# EAGLE library part NAU88C10YG (library NAU88C10YG)
Differential/Mono Audio Codec with 2-wire Interface Control Interface Source: Datasheet <http://www.nuvoton.com/resource-files/NAU8810_Datasheet_Rev_2.8.pdf>
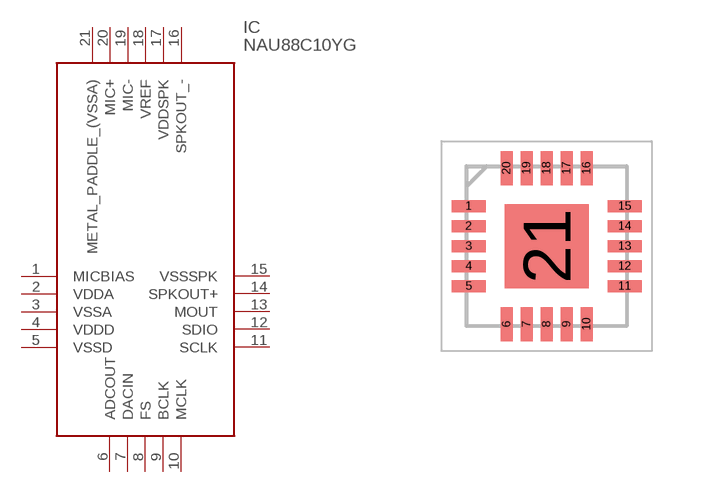
[diagram p0: symbol with the pads of QFN50P400X400X80-21N; footprint QFN50P400X400X80-21N]

Designator prefix IC

## NAU88C10YG (Description: Differential/Mono Audio Codec with 2-wire Interface Control Interface; Height: 0.8mm; Manufacturer_Name: Nuvoton; Manufacturer_Part_Number: NAU88C10YG)  [QFN50P400X400X80-21N]
1  MICBIAS
2  VDDA
3  VSSA
4  VDDD
5  VSSD
6  ADCOUT
7  DACIN
8  FS
9  BCLK
10  MCLK
11  SCLK
12  SDIO
13  MOUT
14  SPKOUT+
15  VSSSPK
16  SPKOUT_-
17  VDDSPK
18  VREF
19  MIC-
20  MIC+
21  METAL_PADDLE_(VSSA)

## Footprint QFN50P400X400X80-21N (pad centres in mm)
NAU88C10
smd 0.85 x 0.3: 1 -1.95,1; 2 -1.95,0.5; 3 -1.95,0; 4 -1.95,-0.5; 5 -1.95,-1; 11 1.95,-1; 12 1.95,-0.5; 13 1.95,0; 14 1.95,0.5; 15 1.95,1
smd 0.3 x 0.85: 6 -1,-1.95; 7 -0.5,-1.95; 8 0,-1.95; 9 0.5,-1.95; 10 1,-1.95; 16 1,1.95; 17 0.5,1.95; 18 0,1.95; 19 -0.5,1.95; 20 -1,1.95
smd 2.1 x 2.1: 21 0,0